# Altium schematic symbol library HW_ADHERENT_SYSCTRL_R1_L1.SchLib: 521 symbols (part 7 of 8)
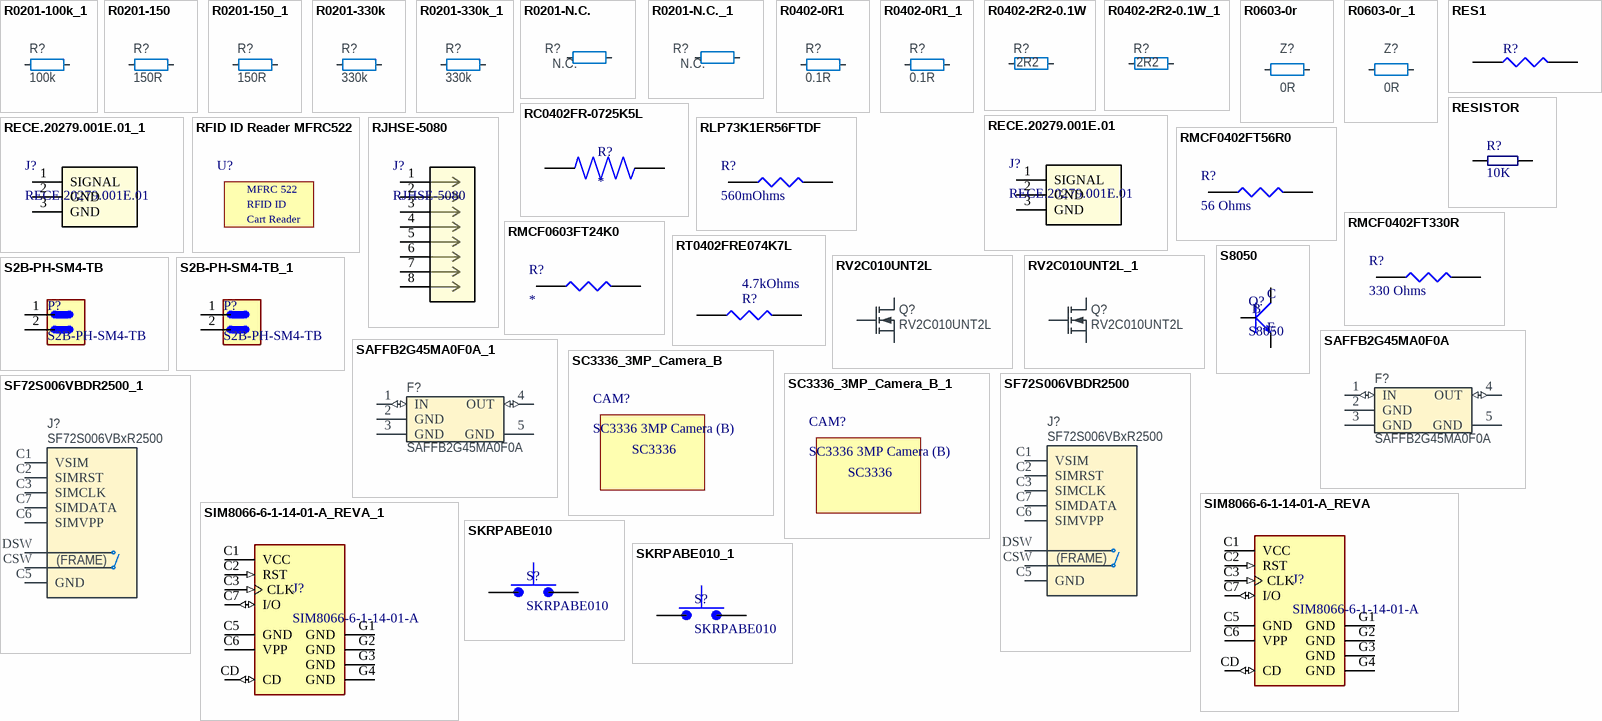
[diagram p21: symbols R0201-100k_1 to SKRPABE010_1]

## R0201-330k_1
designator R?, comment 330k
Resistor, ±1%, 0.05W; Part Number: R0201-330k; Manufacturer: N.A.; Part number IPS: 00000001424; Part number NEMS: 100100087; Component Status: Active; Pad Count: 2; Note: Chip Res 1%; PartId: 100100087; Component Class: Resistors; Author: rsk; Manufacturer Part Number: N.A.; ComponentLink1URL: N.A.; ComponentLink1Description: Datasheet; ComponentLink2URL: N.A.; ComponentLink2Description: Supplier link; HelpURL: N.A.; LatestRevisionDate: 2014-11-13; Published: 2014-11-13; Footprint Doc: 0201; Value: 330k; Supplier 1: N.A.; Supplier Part Number 1: N.A.; Supplier 2: N.A.; Supplier Part Number 2: N.A.; Artikkelnr Noca: N.A.; Part number Norautron: N.A.
footprint RESC0603X03L_C
pins: 1, 2

## R0201-N.C.
designator R?, comment N.C.
Not mounted; Part Number: R0201-N.C.; Manufacturer: N.A.; Part number NEMS: 100100107; Note: Chip Res; Assembly: Not mounted; Pad Count: 2; Component Status: Active; Manufacturer Part Number: N.A.; ComponentLink1URL: N.A.; ComponentLink1Description: Datasheet; ComponentLink2URL: N.A.; ComponentLink2Description: Supplier link; HelpURL: N.A.; Footprint Doc: 0201; LatestRevisionDate: 2014-11-13; Published: 2014-11-13; Value: N.C.; Supplier 1: N.A.; Supplier Part Number 1: N.A.; Supplier 2: N.A.; Supplier Part Number 2: N.A.; Artikkelnr Noca: N.A.; Part number IPS: N.A.; PartId: 100100107; Component Class: Resistors; Author: rsk; Part number Norautron: N.A.
footprint RESC0603X03L_C_NC
pins: 1, 2

## R0201-N.C._1
designator R?, comment N.C.
Not mounted; Part Number: R0201-N.C.; Manufacturer: N.A.; Part number NEMS: 100100107; Note: Chip Res; Assembly: Not mounted; Pad Count: 2; Component Status: Active; Manufacturer Part Number: N.A.; ComponentLink1URL: N.A.; ComponentLink1Description: Datasheet; ComponentLink2URL: N.A.; ComponentLink2Description: Supplier link; HelpURL: N.A.; Footprint Doc: 0201; LatestRevisionDate: 2014-11-13; Published: 2014-11-13; Value: N.C.; Supplier 1: N.A.; Supplier Part Number 1: N.A.; Supplier 2: N.A.; Supplier Part Number 2: N.A.; Artikkelnr Noca: N.A.; Part number IPS: N.A.; PartId: 100100107; Component Class: Resistors; Author: rsk; Part number Norautron: N.A.
footprint RESC0603X03L_C_NC
pins: 1, 2

## R0402-0R1
designator R?, comment 0.1R
Resistor, ±1%, 0.063W; Part Number: R0402-0R1; Manufacturer: N.A.; Part number IPS: 00000001795; Part number NEMS: 100100111; Note: Chip Res 1%; Pad Count: 2; Component Status: Active; Manufacturer Part Number: N.A.; ComponentLink1URL: N.A.; ComponentLink1Description: Datasheet; ComponentLink2URL: N.A.; ComponentLink2Description: Supplier link; HelpURL: N.A.; Footprint Doc: 0402; LatestRevisionDate: 2012-06-22; Published: 2012-06-22; Value: 0.1R; Supplier 1: Digi-Key; Supplier Part Number 1: 311-.10PDKR-ND; Supplier 2: N.A.; Supplier Part Number 2: N.A.; Artikkelnr Noca: N.A.; Author: rsk; Component Class: Resistors; PartId: 100100111; Part number Norautron: N.A.
footprint RESC1005X04L
pins: 1, 2

## R0402-0R1_1
designator R?, comment 0.1R
Resistor, ±1%, 0.063W; Part Number: R0402-0R1; Manufacturer: N.A.; Part number IPS: 00000001795; Part number NEMS: 100100111; Note: Chip Res 1%; Pad Count: 2; Component Status: Active; Manufacturer Part Number: N.A.; ComponentLink1URL: N.A.; ComponentLink1Description: Datasheet; ComponentLink2URL: N.A.; ComponentLink2Description: Supplier link; HelpURL: N.A.; Footprint Doc: 0402; LatestRevisionDate: 2012-06-22; Published: 2012-06-22; Value: 0.1R; Supplier 1: Digi-Key; Supplier Part Number 1: 311-.10PDKR-ND; Supplier 2: N.A.; Supplier Part Number 2: N.A.; Artikkelnr Noca: N.A.; Author: rsk; Component Class: Resistors; PartId: 100100111; Part number Norautron: N.A.
footprint RESC1005X04L
pins: 1, 2

## R0402-2R2-0.1W
designator R?, comment 2R2
Resistor, ±1%, 0.1W; Part Number: R0402-2R2-0.1W; Pad Count: 2; Artikkelnr Noca: N.A.; Note: 2R2 1% 0.1W; Component Status: Active; Footprint Doc: 0402; Value: 2R2; Component Class: Resistors; Author: getr; ComponentLink1Description: Datasheet; ComponentLink1URL: N.A.; ComponentLink2Description: Supplier link; ComponentLink2URL: N.A.; HelpURL: N.A.; LatestRevisionDate: 2025-04-04; Manufacturer: N.A.; Manufacturer Part Number: N.A.; Part number IPS: N.A.; Part number Norautron: N.A.; Published: 2025-04-04; Supplier 1: N.A.; Supplier 2: N.A.; Supplier Part Number 1: N.A.; Supplier Part Number 2: N.A.
footprint RESC1005X04L
pins: 1, 2

## R0402-2R2-0.1W_1
designator R?, comment 2R2
Resistor, ±1%, 0.1W; Part Number: R0402-2R2-0.1W; Pad Count: 2; Artikkelnr Noca: N.A.; Note: 2R2 1% 0.1W; Component Status: Active; Footprint Doc: 0402; Value: 2R2; Component Class: Resistors; Author: getr; ComponentLink1Description: Datasheet; ComponentLink1URL: N.A.; ComponentLink2Description: Supplier link; ComponentLink2URL: N.A.; HelpURL: N.A.; LatestRevisionDate: 2025-04-04; Manufacturer: N.A.; Manufacturer Part Number: N.A.; Part number IPS: N.A.; Part number Norautron: N.A.; Published: 2025-04-04; Supplier 1: N.A.; Supplier 2: N.A.; Supplier Part Number 1: N.A.; Supplier Part Number 2: N.A.
footprint RESC1005X04L
pins: 1, 2

## R0603-0r
designator Z?, comment 0R
Resistor, ±5%, 0.1W; Part Number: R0603-0R; Manufacturer: N.A.; Part number NEMS: 100100283; Pad Count: 2; Note: Chip Res 5%; Artikkelnr Noca: 27069000; Component Status: Active; PartId: 100100283; Component Class: Resistors; Author: rsk; Manufacturer Part Number: N.A.; ComponentLink1URL: N.A.; ComponentLink1Description: Datasheet; ComponentLink2URL: N.A.; ComponentLink2Description: Supplier link; HelpURL: N.A.; Footprint Doc: 0603; LatestRevisionDate: 2011-12-14; Published: 2009-05-08; Value: 0R; Supplier 1: N.A.; Supplier Part Number 1: N.A.; Supplier 2: N.A.; Supplier Part Number 2: N.A.; Part number IPS: N.A.; Part number Norautron: N.A.
footprint RESC1608X06L
footprint C1608X06L-C1005X04M (Chip Capacitor, 2-Leads, Body 1.6x0.8mm, IPC High Density)
pins: 1, 2

## R0603-0r_1
designator Z?, comment 0R
Resistor, ±5%, 0.1W; Part Number: R0603-0R; Manufacturer: N.A.; Part number NEMS: 100100283; Pad Count: 2; Note: Chip Res 5%; Artikkelnr Noca: 27069000; Component Status: Active; PartId: 100100283; Component Class: Resistors; Author: rsk; Manufacturer Part Number: N.A.; ComponentLink1URL: N.A.; ComponentLink1Description: Datasheet; ComponentLink2URL: N.A.; ComponentLink2Description: Supplier link; HelpURL: N.A.; Footprint Doc: 0603; LatestRevisionDate: 2011-12-14; Published: 2009-05-08; Value: 0R; Supplier 1: N.A.; Supplier Part Number 1: N.A.; Supplier 2: N.A.; Supplier Part Number 2: N.A.; Part number IPS: N.A.; Part number Norautron: N.A.
footprint RESC1608X06L
footprint C1608X06L-C1005X04M (Chip Capacitor, 2-Leads, Body 1.6x0.8mm, IPC High Density)
pins: 1, 2

## RC0402FR-0725K5L
designator R?
RES SMD 25.5K OHM 1% 1/16W 0402; MF: {'manufacturer': u'YAGEO'}; MP: RC0402FR-0725K5L; Package: None; Price: None; Value: *; Availability: Unavailable
footprint RESC1005X40N
pins: 1, 2

## RECE.20279.001E.01
designator J?
U.FL (UMCC), I-PEX MHFI Connector Receptacle, Male Pin 50 Ohms Surface Mount Solder; Manufacturer_Name: Taoglas Limited; Type: Coaxial Connectors(RF) Assemblies; Copyright: Copyright (C) 2025 Ultra Librarian. All rights reserved.; Manufacturer_Part_Number: RECE.20279.001E.01; RefDes: RefDes
footprint CON3_RECE.20279.001E.01_TAL
pins: 1 SIGNAL, 2 GND, 3 GND

## RECE.20279.001E.01_1
designator J?, comment RECE.20279.001E.01
U.FL (UMCC), I-PEX MHFI Connector Receptacle, Male Pin 50 Ohms Surface Mount Solder; Manufacturer_Name: Taoglas Limited; Type: Coaxial Connectors(RF) Assemblies; Copyright: Copyright (C) 2025 Ultra Librarian. All rights reserved.; Manufacturer_Part_Number: RECE.20279.001E.01; RefDes: RefDes
footprint CON3_RECE.20279.001E.01_TAL
pins: 1 SIGNAL, 2 GND, 3 GND

## RES1
designator R?
footprint 0603 (SMD CAPACITOR)
footprint 0805
footprint 1206 (SMD, 2-Leads, Body 1.6x0.8mm)
pins: 1, 2

## RESISTOR
designator R?, comment 10K
RESISTOR; VALUE: 10K; CATEGORY: *; LUNA-STOCK-CODE: *; MPN: *
footprint R0402 (SMD RESISTOR)
footprint R0201 (SMD RESISTOR)
footprint R0603 (SMD RESISTOR)
footprint R0805 (SMD RESISTOR)
footprint R1206 (SMD RESISTOR)
footprint R1210 (SMD RESISTOR)
footprint R2512 (SMD RESISTOR)
footprint RESISTOR 3W (AXİAL RESISTOR)
footprint RESISTOR 3W_R01 (AXIAL RESISTOR)
footprint RESISTOR 3W_R02 (AXIAL RESISTOR)
footprint R-ULW3 (AXIAL RESISTOR)
pins: 1, 2

## RFID ID Reader MFRC522
designator U?  (value not drawn)
MFRC-522 RC522 RFID RF IC kart okuyucu Sensör Modülü Lehim 8 P Soket
footprint RFID-MFRC522
text: MFRC 522; RFID ID; Cart Reader

## RJHSE-5080
designator J?
Description; Manufacturer_Name: Amphenol ICC; Copyright: Copyright (C) 2026 Ultra Librarian. All rights reserved.; Manufacturer_Part_Number: RJHSE-5080; RefDes: RefDes; Type: Type
footprint AMPHENOL_RJHSE-5080
pins: 1, 2, 3, 4, 5, 6, 7, 8

## RLP73K1ER56FTDF
designator R?, comment 560mOhms
560 mOhms ±1% 0.125W, 1/8W Chip Resistor 0402 (1005 Metric) Current Sense Thick Film; Manufacturer: TE Connectivity Passive Product; Supplier: Digi; A109550DKR-ND
footprint RES_0402
pins: 1, 2

## RMCF0402FT56R0
designator R?, comment 56 Ohms
56 Ohms ±1% 0.063W, 1/16W Chip Resistor 0402 (1005 Metric) Automotive AEC-Q200 Thick Film; Manİfacturer: Stackpole Electronics Inc; Supplier: Digi; RMCF0402FT56R0DKR-ND
footprint RES_0402
pins: 1, 2

## RMCF0402FT330R
designator R?, comment 330 Ohms
330 Ohms ±1% 0.063W, 1/16W Chip Resistor 0402 (1005 Metric) Automotive AEC-Q200 Thick Film; Manifacturer: Stackpole Electronics Inc; Supplier: Digi; RMCF0402FT330RDKR-ND
footprint RES_0402
pins: 1, 2

## RMCF0603FT24K0
designator R?
24 kOhms ±1% 0.1W, 1/10W Chip Resistor 0603 (1608 Metric) Automotive AEC-Q200 Thick Film; Manufacturer: Stackpole Electronics Inc; Supplier: Digi; RMCF0603FT24K0DKR-ND
footprint 0603 (SMD CAPACITOR)
pins: 1, 2

## RT0402FRE074K7L
designator R?, comment 4.7kOhms
RES SMD 4.7K OHM 1% 1/16W 0402; Manufacturer: Yageo Group; Manufacturer Part Number: RT0402FRE074K7L; Max Power Dissipation: 63mW; Power Rating: 62.5mW; Temperature Coefficient: 50ppm/°C; Voltage Rating: 50V; Case Code (Imperial): 0402; Case/Package: 0402; Category: Chip SMD Resistors; China RoHS: Non-Compliant; Composition: Thin Film; Contact Plating: Lead, Tin; Country of Origin: Mainland China; Export Control Classification Number (ECCN) Code: EAR99; Features: Moisture Resistant; Harmonized Tariff Schedule (HTS) Code: 8533.21.00.30; Height: 300µm; Introduction Date: 2008-06-09; Lead Free: Lead Free; Length: 1mm; Lifecycle Status: Production; Max Operating Temperature: 155°C; Min Operating Temperature: -55°C; Mounting Technology: Surface Mount; Number of Terminals: 2; Number of Terminations: 2; Radiation Hardening: No; REACH SVHC: Yes; RoHS: Compliant; Schedule B: 8533210045, 8533210045|8533210045, 8533210045|8533210045|8533210045, 8533210045|8533210045|8533210045|8533210045; Termination: SMD/SMT; Tolerance: 1%; Voltage Rating (DC): 50V; Width: 500µm; Working Voltage: 50V; Value: 4.7kOhms
footprint RES_0402
pins: 1, 2

## RV2C010UNT2L
designator Q?
N-Channel MOSFET, 20V, 1A, 470mOhm, 400mW; Manufacturer: Rohm Semiconductor; Part number IPS: 00000009976; Part number Norautron: 26320026; Part number NEMS: 101300132; Note: N.A.; Artikkelnr Noca: 35010020; Pad Count: 3; Component Status: Active; Part Number: RV2C010UNT2L; Manufacturer Part Number: RV2C010UNT2L; ComponentLink1URL: N.A.; ComponentLink1Description: Datasheet; ComponentLink2URL: N.A.; ComponentLink2Description: Supplier link; HelpURL: http://rohmfs.rohm.com/en/products/databook/datasheet/discrete/transistor/mosfet/rv2c010unt2l-e.pdf; Footprint Doc: DFN-3; LatestRevisionDate: 2016-08-09; Published: 2016-08-09; Value: RV2C010UNT2L; Supplier 1: Digi-Key; Supplier Part Number 1: RV2C010UNT2LCT-ND; Supplier 2: Mouser; Supplier Part Number 2: 755-RV2C010UNT2L; PartId: 101300132; Component Class: Semiconductors; Author: rsk
footprint DFN65P100X40-3L
pins: 1 G, 2 S, 3 D

## RV2C010UNT2L_1
designator Q?, comment RV2C010UNT2L
N-Channel MOSFET, 20V, 1A, 470mOhm, 400mW; Manufacturer: Rohm Semiconductor; Part number IPS: 00000009976; Part number Norautron: 26320026; Part number NEMS: 101300132; Note: N.A.; Artikkelnr Noca: 35010020; Pad Count: 3; Component Status: Active; Part Number: RV2C010UNT2L; Manufacturer Part Number: RV2C010UNT2L; ComponentLink1URL: N.A.; ComponentLink1Description: Datasheet; ComponentLink2URL: N.A.; ComponentLink2Description: Supplier link; HelpURL: http://rohmfs.rohm.com/en/products/databook/datasheet/discrete/transistor/mosfet/rv2c010unt2l-e.pdf; Footprint Doc: DFN-3; LatestRevisionDate: 2016-08-09; Published: 2016-08-09; Value: RV2C010UNT2L; Supplier 1: Digi-Key; Supplier Part Number 1: RV2C010UNT2LCT-ND; Supplier 2: Mouser; Supplier Part Number 2: 755-RV2C010UNT2L; PartId: 101300132; Component Class: Semiconductors; Author: rsk
footprint DFN65P100X40-3L
pins: 1 G, 2 S, 3 D

## S2B-PH-SM4-TB
designator P?
Connector Header Surface Mount, Right Angle 2 position 0.079 (2.00mm); MF: JST Sales; SnapEDA_Link: https://www.snapeda.com/parts/S2B-PH-SM4-TB/JST/view-part/?ref=snap; Package: None; Value: *; MP: S2B-PH-SM4-TB; Check_prices: https://www.snapeda.com/parts/S2B-PH-SM4-TB/JST/view-part/?ref=eda
footprint JST_S2B-PH-SM4-TB
pins: 1, 2

## S2B-PH-SM4-TB_1
designator P?, comment S2B-PH-SM4-TB
Connector Header Surface Mount, Right Angle 2 position 0.079 (2.00mm); MF: JST Sales; SnapEDA_Link: https://www.snapeda.com/parts/S2B-PH-SM4-TB/JST/view-part/?ref=snap; Package: None; Value: *; MP: S2B-PH-SM4-TB; Check_prices: https://www.snapeda.com/parts/S2B-PH-SM4-TB/JST/view-part/?ref=eda
footprint JST_S2B-PH-SM4-TB
pins: 1, 2

## S8050
designator Q?
Bipolar (BJT) Transistor NPN 25 V 500 mA 150MHz 300 mW Surface Mount SOT-23; MF: UMW; Purchase-URL: https://pricing.snapeda.com/search/part/S8050/?ref=eda; Check_prices: https://www.snapeda.com/parts/S8050/Umwelt+Sensor+Teknik/view-part/?ref=eda; SnapEDA_Link: https://www.snapeda.com/parts/S8050/Umwelt+Sensor+Teknik/view-part/?ref=snap; Price: None; Availability: In Stock; Package: None; MP: S8050; Value: *
footprint SOT-23
pins: 1 B, 2 E, 3 C

## SAFFB2G45MA0F0A
designator F?
2.4 GHz BPF; Manufacturer: Murata; Part number IPS: 00000001784, 80000001660; Part number NEMS: 100800023; Artikkelnr Noca: N.A.; Pad Count: 5; Component Status: Active; Part Number: SAFFB2G45MA0F0A; Manufacturer Part Number: SAFFB2G45MA0F0A; ComponentLink1URL: N.A.; ComponentLink1Description: Datasheet; ComponentLink2URL: N.A.; ComponentLink2Description: Supplier link; HelpURL: N.A.; Footprint Doc: 1109; LatestRevisionDate: 2018-05-15; Published: 2018-05-15; Value: SAFFB2G45MA0F0A; Supplier 1: N.A.; Supplier Part Number 1: N.A.; Supplier 2: N.A.; Supplier Part Number 2: N.A.; Author: rsk; Component Class: Filters; Note: N.A.; PartId: 100800023; Part number Norautron: N.A.
footprint SAFFB2G45MA0F0A
pins: 1 IN (io), 2 GND (power), 3 GND (power), 4 OUT (io), 5 GND (power)

## SAFFB2G45MA0F0A_1
designator F?, comment SAFFB2G45MA0F0A
2.4 GHz BPF; Manufacturer: Murata; Part number IPS: 00000001784, 80000001660; Part number NEMS: 100800023; Artikkelnr Noca: N.A.; Pad Count: 5; Component Status: Active; Part Number: SAFFB2G45MA0F0A; Manufacturer Part Number: SAFFB2G45MA0F0A; ComponentLink1URL: N.A.; ComponentLink1Description: Datasheet; ComponentLink2URL: N.A.; ComponentLink2Description: Supplier link; HelpURL: N.A.; Footprint Doc: 1109; LatestRevisionDate: 2018-05-15; Published: 2018-05-15; Value: SAFFB2G45MA0F0A; Supplier 1: N.A.; Supplier Part Number 1: N.A.; Supplier 2: N.A.; Supplier Part Number 2: N.A.; Author: rsk; Component Class: Filters; Note: N.A.; PartId: 100800023; Part number Norautron: N.A.
footprint SAFFB2G45MA0F0A
pins: 1 IN (io), 2 GND (power), 3 GND (power), 4 OUT (io), 5 GND (power)

## SC3336_3MP_Camera_B
designator CAM?, comment SC3336 3MP Camera (B)
https://www.luckfox.com/EN-SC3336-3MP-Camera-B?search=SC3336&description=true; ComponentLink1Description: New link; ComponentLink1URL: *
footprint SC3336
text: SC3336

## SC3336_3MP_Camera_B_1
designator CAM?, comment SC3336 3MP Camera (B)
https://www.luckfox.com/EN-SC3336-3MP-Camera-B?search=SC3336&description=true; ComponentLink1Description: New link; ComponentLink1URL: *
footprint SC3336
text: SC3336

## SF72S006VBDR2500
designator J?, comment SF72S006VBxR2500
n 8 (6 + 2) Position Card Connector NANO SIM Surface Mount, Right Angle Gold; Part Number: SF72S006VBDR2500; Manufacturer: JAE Electronics; Part number NEMS: 100500780; Value: SF72S006VBDR2500; Note: N.A.; Pad Count: 8; Component Status: Active; Manufacturer Part Number: SF72S006VBDR2500; Footprint Doc: SF72S006VBDR2500; LatestRevisionDate: 2023-01-12; Published: 2023-01-12; Artikkelnr Noca: N.A.; Part number IPS: N.A.; ComponentLink1URL: https://www.jae.com/direct/topics/topics_file_download/topics_id=68892&ext_no=04&_lang=en; ComponentLink1Description: Datasheet; ComponentLink2URL: https://www.digikey.com/en/products/detail/jae-electronics/SF72S006VBDR2500/6834083; ComponentLink2Description: Supplier link; HelpURL: N.A.; Supplier 1: Digi-Key; Supplier Part Number 1: 670-2967-1-ND; Supplier 2: N.A.; Supplier Part Number 2: N.A.; Author: rubr; Component Class: Connectors; PartId: 100500780; Part number Norautron: N.A.; System: Connector
footprint SF72S006VBxR2500
pins: 0 GND hidden to GND, C1 VSIM, C2 SIMRST, C3 SIMCLK, C5 GND, C6 SIMVPP, C7 SIMDATA, CSW, DSW
text: (FRAME)

## SF72S006VBDR2500_1
designator J?, comment SF72S006VBxR2500
n 8 (6 + 2) Position Card Connector NANO SIM Surface Mount, Right Angle Gold; Part Number: SF72S006VBDR2500; Manufacturer: JAE Electronics; Part number NEMS: 100500780; Value: SF72S006VBDR2500; Note: N.A.; Pad Count: 8; Component Status: Active; Manufacturer Part Number: SF72S006VBDR2500; Footprint Doc: SF72S006VBDR2500; LatestRevisionDate: 2023-01-12; Published: 2023-01-12; Artikkelnr Noca: N.A.; Part number IPS: N.A.; ComponentLink1URL: https://www.jae.com/direct/topics/topics_file_download/topics_id=68892&ext_no=04&_lang=en; ComponentLink1Description: Datasheet; ComponentLink2URL: https://www.digikey.com/en/products/detail/jae-electronics/SF72S006VBDR2500/6834083; ComponentLink2Description: Supplier link; HelpURL: N.A.; Supplier 1: Digi-Key; Supplier Part Number 1: 670-2967-1-ND; Supplier 2: N.A.; Supplier Part Number 2: N.A.; Author: rubr; Component Class: Connectors; PartId: 100500780; Part number Norautron: N.A.; System: Connector
footprint SF72S006VBxR2500
pins: 0 GND hidden to GND, C1 VSIM, C2 SIMRST, C3 SIMCLK, C5 GND, C6 SIMVPP, C7 SIMDATA, CSW, DSW
text: (FRAME)

## SIM8066-6-1-14-01-A_REVA
designator J?, comment SIM8066-6-1-14-01-A
Nano SIM Card ConnectorPush-Push Type, SMT, 6Pin, 1.44mm Profile; MP: SIM8066-6-1-14-01-A_REVA; Package: None; Price: None; Value: *; Availability: Unavailable; Manufacturer Part Number: SIM8066-6-1-14-01-A
footprint GCT_SIM8066-6-1-14-01-A_REVA
pins: C1 VCC (power), C2 RST (in), C3 CLK (in), C5 GND (power), C6 VPP (power), C7 I/O (io), CD (io), G1 GND (power), G2 GND (power), G3 GND (power), G4 GND (power)

## SIM8066-6-1-14-01-A_REVA_1
designator J?, comment SIM8066-6-1-14-01-A
Nano SIM Card ConnectorPush-Push Type, SMT, 6Pin, 1.44mm Profile; MP: SIM8066-6-1-14-01-A_REVA; Package: None; Price: None; Value: *; Availability: Unavailable; Manufacturer Part Number: SIM8066-6-1-14-01-A
footprint GCT_SIM8066-6-1-14-01-A_REVA
pins: C1 VCC (power), C2 RST (in), C3 CLK (in), C5 GND (power), C6 VPP (power), C7 I/O (io), CD (io), G1 GND (power), G2 GND (power), G3 GND (power), G4 GND (power)

## SKRPABE010
designator S?
Switch Tactile N.O. SPST Button J-Bend 0.05A 16VDC 1.57N SMD Automotive T/R; MF: ALPS; SnapEDA_Link: https://www.snapeda.com/parts/SKRPABE010/ALPS/view-part/?ref=snap; Package: None; Value: *; MP: SKRPABE010; Check_prices: https://www.snapeda.com/parts/SKRPABE010/ALPS/view-part/?ref=eda
footprint SW_SKRPABE010
pins: 1, 2 1, 3 2, 4 2

## SKRPABE010_1
designator S?, comment SKRPABE010
Switch Tactile N.O. SPST Button J-Bend 0.05A 16VDC 1.57N SMD Automotive T/R; MF: ALPS; SnapEDA_Link: https://www.snapeda.com/parts/SKRPABE010/ALPS/view-part/?ref=snap; Package: None; Value: *; MP: SKRPABE010; Check_prices: https://www.snapeda.com/parts/SKRPABE010/ALPS/view-part/?ref=eda
footprint SW_SKRPABE010
pins: 1, 2 1, 3 2, 4 2

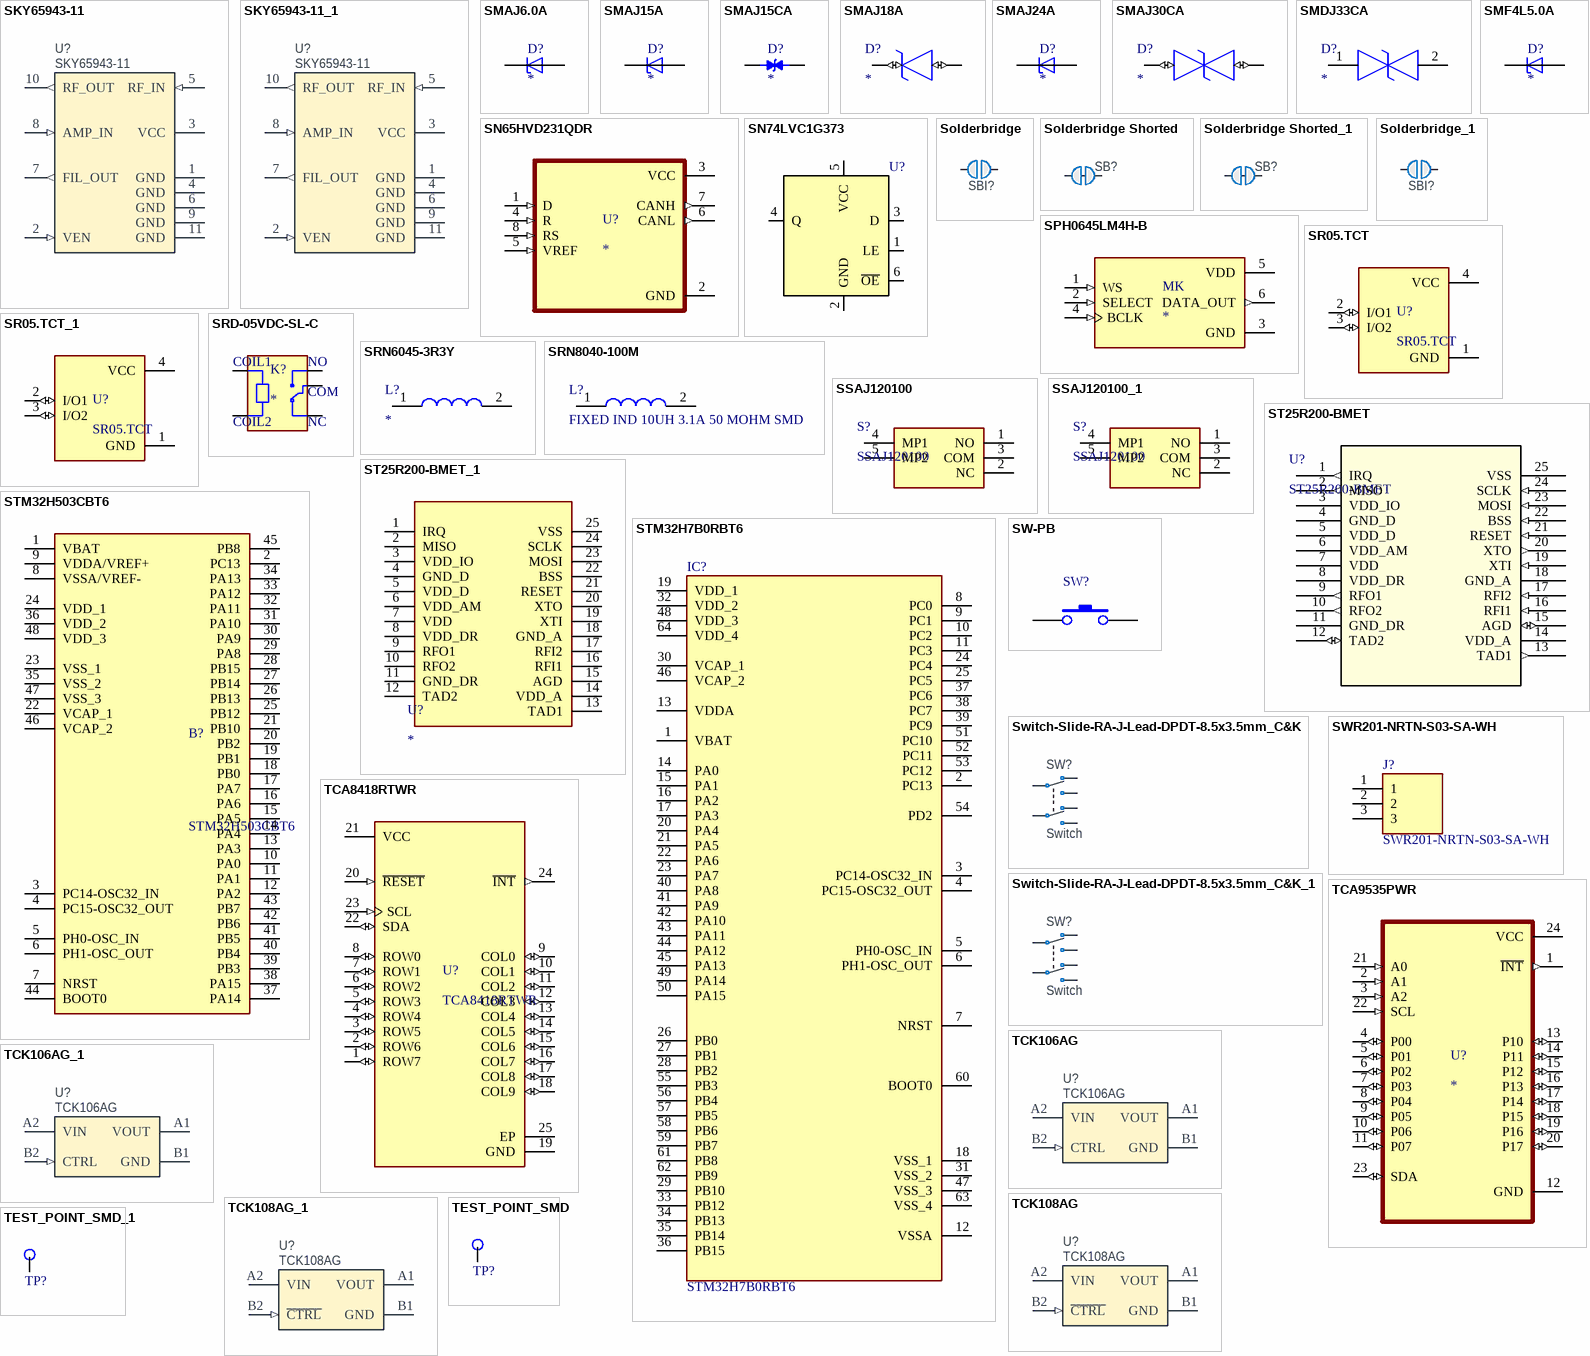
[diagram p13: symbols SKY65943-11 to TEST_POINT_SMD_1]

## SKY65943-11
designator U?
GNSS Low-Noise Amplifier Front-End Module with Integrated Pre-Filter and Post-Filter; Manufacturer: Skyworks; Part number IPS: 00000002997; Part number NEMS: 101900584; Note: N.A.; Pad Count: 10; Component Status: Active; Part Number: SKY65943-11; Manufacturer Part Number: SKY65943-11; Footprint Doc: MCM-10; Value: SKY65943-11; ComponentLink1URL: http://www.skyworksinc.com/uploads/documents/SKY65943_11_204404F.pdf; ComponentLink1Description: Datasheet; ComponentLink2URL: https://www.digikey.com/product-detail/en/skyworks-solutions-inc/SKY65943-11/863-2032-1-ND; ComponentLink2Description: Supplier link; HelpURL: http://www.skyworksinc.com/Product/3579/SKY65943-11; LatestRevisionDate: 2019-04-16; Published: 2019-04-16; Supplier 1: Digi-Key; Supplier Part Number 1: 863-2032-1-ND; Supplier 2: Mouser; Supplier Part Number 2: 873-SKY65943-11; Artikkelnr Noca: N.A.; PartId: 101900584; Component Class: Misc_ICs; Author: rsk; Part number Norautron: N.A.
footprint SKY65943-11
pins: 1 GND (power), 2 VEN (in), 3 VCC (power), 4 GND (power), 5 RF_IN (in), 6 GND (power), 7 FIL_OUT (out), 8 AMP_IN (in), 9 GND (power), 10 RF_OUT (out), 11 GND (power)

## SKY65943-11_1
designator U?, comment SKY65943-11
GNSS Low-Noise Amplifier Front-End Module with Integrated Pre-Filter and Post-Filter; Manufacturer: Skyworks; Part number IPS: 00000002997; Part number NEMS: 101900584; Note: N.A.; Pad Count: 10; Component Status: Active; Part Number: SKY65943-11; Manufacturer Part Number: SKY65943-11; Footprint Doc: MCM-10; Value: SKY65943-11; ComponentLink1URL: http://www.skyworksinc.com/uploads/documents/SKY65943_11_204404F.pdf; ComponentLink1Description: Datasheet; ComponentLink2URL: https://www.digikey.com/product-detail/en/skyworks-solutions-inc/SKY65943-11/863-2032-1-ND; ComponentLink2Description: Supplier link; HelpURL: http://www.skyworksinc.com/Product/3579/SKY65943-11; LatestRevisionDate: 2019-04-16; Published: 2019-04-16; Supplier 1: Digi-Key; Supplier Part Number 1: 863-2032-1-ND; Supplier 2: Mouser; Supplier Part Number 2: 873-SKY65943-11; Artikkelnr Noca: N.A.; PartId: 101900584; Component Class: Misc_ICs; Author: rsk; Part number Norautron: N.A.
footprint SKY65943-11
pins: 1 GND (power), 2 VEN (in), 3 VCC (power), 4 GND (power), 5 RF_IN (in), 6 GND (power), 7 FIL_OUT (out), 8 AMP_IN (in), 9 GND (power), 10 RF_OUT (out), 11 GND (power)

## SMAJ6.0A
designator D?
400W, 7V, 5%, Unidirectional, TVS; MF: Taiwan Semiconductor; MP: SMAJ6.0A; SnapEDA_Link: https://www.snapeda.com/parts/SMAJ6.0A/taiwan/view-part/?ref=snap; Package: SMA-2 Taiwan Semiconductor; Value: *; Check_prices: https://www.snapeda.com/parts/SMAJ6.0A/taiwan/view-part/?ref=eda
footprint DIOM4325X250N
pins: A, C

## SMAJ15A
designator D?
400W, 17.6V, 5%, Unidirectional, TVS; MF: Taiwan Semiconductor; MP: SMAJ15A; SnapEDA_Link: https://www.snapeda.com/parts/SMAJ15A/taiwan/view-part/?ref=snap; Package: SMA-2 Taiwan Semiconductor; Value: *; Check_prices: https://www.snapeda.com/parts/SMAJ15A/taiwan/view-part/?ref=eda
footprint DIOM4325X250N
pins: A, C

## SMAJ15CA
designator D?
A 15V, 400W, bi-directional, SMA packaged TVS Diode | Bourns SMAJ15CA; SnapEDA_Link: https://www.snapeda.com/parts/SMAJ15CA/Bourns/view-part/?ref=snap; Package: DO-214 Bourns; Value: *; MF: Bourns; MP: SMAJ15CA; Check_prices: https://www.snapeda.com/parts/SMAJ15CA/Bourns/view-part/?ref=eda
footprint DIOM4325X250N
pins: 1, 2

## SMAJ18A
designator D?
39.3V Clamp 59A (8/20Âµs) Ipp Tvs Diode Surface Mount DO-214AC (SMA); MF: STMicroelectronics; MP: SMAJ18A-TR; SnapEDA_Link: https://www.snapeda.com/parts/SMAJ18A-TR/STMicroelectronics/view-part/?ref=snap; Package: DO-214 STMicroelectronics; Value: *; Check_prices: https://www.snapeda.com/parts/SMAJ18A-TR/STMicroelectronics/view-part/?ref=eda
footprint DIOM5226X262N
pins: 1 K (io), 2 A (io)

## SMAJ24A
designator D?
Diode TVS Uni-Dir 24V 400W DO214AC | Littelfuse SMAJ24A; SnapEDA_Link: https://www.snapeda.com/parts/SMAJ24A/Littelfuse/view-part/?ref=snap; Package: DO-214 Littelfuse; Value: *; MF: Littelfuse; MP: SMAJ24A; Check_prices: https://www.snapeda.com/parts/SMAJ24A/Littelfuse/view-part/?ref=eda
footprint DIOM4325X250N
pins: A, C

## SMAJ30CA
designator D?
Diode TVS Bi-Dir 30V 400W DO214AC | Littelfuse SMAJ30CA; SnapEDA_Link: https://www.snapeda.com/parts/SMAJ30CA/Littelfuse/view-part/?ref=snap; Package: DO-214 Bourns; Value: *; MF: Littelfuse; MP: SMAJ30CA; Check_prices: https://www.snapeda.com/parts/SMAJ30CA/Littelfuse/view-part/?ref=eda
footprint DIONM5026X229N
pins: 1 (io), 2 (io)

## SMDJ33CA
designator D?
53.3V Clamp 56.3A Ipp Tvs Diode Surface Mount DO-214AB (SMCJ); Manufacturer: Littelfuse Inc.; Supplier: Digi; SMDJ33CADKR-ND
footprint DIONM7959X262N
pins: 1, 2

## SMF4L5.0A
designator D?
400W, 5V - 75V Surface Mount Transient Voltage Suppressor; MF: Taiwan Semiconductor; MP: SMF4L5.0A; SnapEDA_Link: https://www.snapeda.com/parts/SMF4L5.0A/taiwan/view-part/?ref=snap; Package: SOD-123W-2 Taiwan Semiconductor; Value: *; Check_prices: https://www.snapeda.com/parts/SMF4L5.0A/taiwan/view-part/?ref=eda
footprint TVS_SMF4L5.0A
pins: A, C

## SN65HVD231QDR
designator U?
3.3-V CAN Transceiver with Sleep Mode; MF: Texas Instruments; MP: SN65HVD231QDR; SnapEDA_Link: https://www.snapeda.com/parts/SN65HVD231QDR/Texas+Instruments/view-part/?ref=snap; Package: SOIC-8 Texas Instruments; Value: *; Check_prices: https://www.snapeda.com/parts/SN65HVD231QDR/Texas+Instruments/view-part/?ref=eda
footprint SOIC127P599X175-8N
pins: 1 D (in), 2 GND (power), 3 VCC (power), 4 R (in), 5 VREF (in), 6 CANL (out), 7 CANH (out), 8 RS (in)

## SN74LVC1G373
designator U?
footprint SOT-363
pins: 1 LE, 2 GND, 3 D, 4 Q, 5 VCC, 6 ~{OE}

## Solderbridge
designator SBI?  (value not drawn)  (no BOM)
Manufacturer: N.A.; Part number NEMS: 100500458; Pad Count: 2; Component Status: Active; System: Connector; Part Number: Solderbridge; PartId: 100500458; Component Class: Connectors; Author: rsk; Manufacturer Part Number: N.A.; ComponentLink1URL: N.A.; ComponentLink1Description: Datasheet; ComponentLink2URL: N.A.; ComponentLink2Description: Supplier link; HelpURL: N.A.; Footprint Doc: Solderbridge; LatestRevisionDate: 2009-12-14; Published: 2009-12-14; Value: Solderbridge; Note: N.A.; Supplier 1: N.A.; Supplier Part Number 1: N.A.; Supplier 2: N.A.; Supplier Part Number 2: N.A.; Artikkelnr Noca: N.A.; Part number IPS: N.A.; Part number Norautron: N.A.
footprint Solderbridge
pins: 1 0, 2 1

## Solderbridge Shorted
designator SB?, comment Solderbridge  (value not drawn)  (net tie, no BOM)
Shorted Solderbridge; Part Number: Solderbridge Shorted; Manufacturer: N.A.; Part number NEMS: 100500459; Component Status: Active; Pad Count: 2; System: Connector; PartId: 100500459; Component Class: Connectors; Author: rsk; Manufacturer Part Number: N.A.; ComponentLink1URL: N.A.; ComponentLink1Description: Datasheet; ComponentLink2URL: N.A.; ComponentLink2Description: Supplier link; HelpURL: N.A.; LatestRevisionDate: 2012-08-07; Published: 2012-08-07; Footprint Doc: Solderbridge_Shorted; Value: Solderbridge; Note: N.A.; Supplier 1: N.A.; Supplier Part Number 1: N.A.; Supplier 2: N.A.; Supplier Part Number 2: N.A.; Artikkelnr Noca: N.A.; Part number IPS: N.A.; Part number Norautron: N.A.
footprint Solderbridge_Shorted
pins: 1 0, 2 1

## Solderbridge Shorted_1
designator SB?, comment Solderbridge  (value not drawn)  (net tie, no BOM)
Shorted Solderbridge; Part Number: Solderbridge Shorted; Manufacturer: N.A.; Part number NEMS: 100500459; Component Status: Active; Pad Count: 2; System: Connector; PartId: 100500459; Component Class: Connectors; Author: rsk; Manufacturer Part Number: N.A.; ComponentLink1URL: N.A.; ComponentLink1Description: Datasheet; ComponentLink2URL: N.A.; ComponentLink2Description: Supplier link; HelpURL: N.A.; LatestRevisionDate: 2012-08-07; Published: 2012-08-07; Footprint Doc: Solderbridge_Shorted; Value: Solderbridge; Note: N.A.; Supplier 1: N.A.; Supplier Part Number 1: N.A.; Supplier 2: N.A.; Supplier Part Number 2: N.A.; Artikkelnr Noca: N.A.; Part number IPS: N.A.; Part number Norautron: N.A.
footprint Solderbridge_Shorted
pins: 1 0, 2 1

## Solderbridge_1
designator SBI?, comment Solderbridge  (value not drawn)  (no BOM)
Manufacturer: N.A.; Part number NEMS: 100500458; Pad Count: 2; Component Status: Active; System: Connector; Part Number: Solderbridge; PartId: 100500458; Component Class: Connectors; Author: rsk; Manufacturer Part Number: N.A.; ComponentLink1URL: N.A.; ComponentLink1Description: Datasheet; ComponentLink2URL: N.A.; ComponentLink2Description: Supplier link; HelpURL: N.A.; Footprint Doc: Solderbridge; LatestRevisionDate: 2009-12-14; Published: 2009-12-14; Value: Solderbridge; Note: N.A.; Supplier 1: N.A.; Supplier Part Number 1: N.A.; Supplier 2: N.A.; Supplier Part Number 2: N.A.; Artikkelnr Noca: N.A.; Part number IPS: N.A.; Part number Norautron: N.A.
footprint Solderbridge
pins: 1 0, 2 1

## SPH0645LM4H-B
designator MK
20 Hz ~ 10 kHz digitale IÂ²S-Mikrofon-MEMS _Silizium_ 1,62 V ~ 3,6 V omnidirektionale _-26 dB Â± 3 dB bei 94 dB SPL_ LÃ¶tpads; MP: SPH0645LM4H-B; MF: Knowles; Package: SIP-7 Bourns; Digi-Key_Purchase_URL: https://www.digikey.ch/product-detail/en/knowles/SPH0645LM4H-B/423-1405-1-ND/5332432?utm_source=snapeda&utm_medium=aggregator&utm_campaign=symbol; Digi-Key_Part_Number: 423-1405-1-ND; SnapEDA_Link: https://www.snapeda.com/parts/SPH0645LM4H-B/Knowles/view-part/229820/?ref=snap; Value: *
footprint MIC_SPH0645LM4H-B
pins: 1 WS (in), 2 SELECT (in), 3 GND (power), 4 BCLK (in), 5 VDD (power), 6 DATA_OUT (out)

## SR05.TCT
designator U?
20V Clamp 25A (8/20µs) Ipp Tvs Diode Surface Mount SOT-143-4; MF: Semtech Corporation; SnapEDA_Link: https://www.snapeda.com/parts/SR05.TCT/Semtech+Corporation/view-part/?ref=snap; Package: SOT-143 Semtech; Value: *; MP: SR05.TCT; Check_prices: https://www.snapeda.com/parts/SR05.TCT/Semtech+Corporation/view-part/?ref=eda
footprint SOT192P237X122-4N
pins: 1 GND (power), 2 I/O1 (io), 3 I/O2 (io), 4 VCC (power)

## SR05.TCT_1
designator U?, comment SR05.TCT
20V Clamp 25A (8/20µs) Ipp Tvs Diode Surface Mount SOT-143-4; MF: Semtech Corporation; SnapEDA_Link: https://www.snapeda.com/parts/SR05.TCT/Semtech+Corporation/view-part/?ref=snap; Package: SOT-143 Semtech; Value: *; MP: SR05.TCT; Check_prices: https://www.snapeda.com/parts/SR05.TCT/Semtech+Corporation/view-part/?ref=eda
footprint SOT192P237X122-4N
pins: 1 GND (power), 2 I/O1 (io), 3 I/O2 (io), 4 VCC (power)

## SRD-05VDC-SL-C
designator K?
5V Trigger Relay Module For Arduino And Raspberry Pi 5V Trigger Relay Module For Arduino And Raspberry Pi; MF: Songle Relay; MP: SRD-05VDC-SL-C; Check_prices: https://www.snapeda.com/parts/SRD-05VDC-SL-C/Songle+Relay/view-part/?ref=eda; Value: *; Availability: Not in stock; Price: None; Package: NON STANDARD-5 Songle Relay; SnapEDA_Link: https://www.snapeda.com/parts/SRD-05VDC-SL-C/Songle+Relay/view-part/?ref=snap
footprint RELAY_SRD-05VDC-SL-C
pins: A1, A2, COM, NC, NO
text: COIL1; COIL2

## SRN6045-3R3Y
designator L?
Inductor; Manufacturer_Name: Bourns; Manufacturer_Part_Number: SRN6045-3R3Y; Datasheet Link: http://www.bourns.com/data/global/pdfs/SRN6045.PDF; Height: 4.5mm; Mouser Part Number: 652-SRN6045-3R3Y; Mouser Price/Stock: https://www.mouser.co.uk/ProductDetail/Bourns/SRN6045-3R3Y?qs=opBjA1TV902zAu8ZJKzTSQ%3D%3D; Arrow Part Number: SRN6045-3R3Y; Arrow Price/Stock: https://www.arrow.com/en/products/srn6045-3r3y/bourns?region=nac
footprint INDM6060X450N
pins: 1, 2

## SRN8040-100M
designator L?, comment FIXED IND 10UH 3.1A 50 MOHM SMD
Manufacturer_Name: Bourns; Manufacturer_Part_Number: SRN8040-100M; Datasheet Link: https://componentsearchengine.com/Datasheets/1/SRN8040-100M.pdf; Height: 4mm; Mouser Part Number: 652-SRN8040-100M; Mouser Price/Stock: https://www.mouser.co.uk/ProductDetail/Bourns/SRN8040-100M?qs=opBjA1TV901MvrktVUEKyA%3D%3D; Arrow Part Number: SRN8040-100M; Arrow Price/Stock: https://www.arrow.com/en/products/srn8040-100m/bourns?region=nac
footprint SRN8040100M
pins: 1, 2

## SSAJ120100
designator S?
Slide Switch SPDT Surface Mount, Right Angle; Manufacturer_Name: ALPS Electric; Datasheet Link: https://tech.alpsalpine.com/e/products/detail/SSAJ120100/#ancFig2; Height: 0.9mm; Manufacturer_Part_Number: SSAJ120100; Mouser Part Number: 688-SSAJ120100; Mouser Price/Stock: https://www.mouser.co.uk/ProductDetail/Alps-Alpine/SSAJ120100?qs=35GPJvxY%252Bl5mRNwFoBrl2g%3D%3D
footprint SSAJ120100
pins: 1 NO, 2 NC, 3 COM, 4 MP1, 5 MP2

## SSAJ120100_1
designator S?, comment SSAJ120100
Slide Switch SPDT Surface Mount, Right Angle; Manufacturer_Name: ALPS Electric; Datasheet Link: https://tech.alpsalpine.com/e/products/detail/SSAJ120100/#ancFig2; Height: 0.9mm; Manufacturer_Part_Number: SSAJ120100; Mouser Part Number: 688-SSAJ120100; Mouser Price/Stock: https://www.mouser.co.uk/ProductDetail/Alps-Alpine/SSAJ120100?qs=35GPJvxY%252Bl5mRNwFoBrl2g%3D%3D
footprint SSAJ120100
pins: 1 NO, 2 NC, 3 COM, 4 MP1, 5 MP2

## ST25R200-BMET
designator U?
Powerful general-purpose NFC reader for consumer and industrial applications; Manufacturer_Name: STMicroelectronics; Copyright: Copyright (C) 2025 Ultra Librarian. All rights reserved.; Manufacturer_Part_Number: ST25R200-BMET; RefDes: RefDes; Type: Type
footprint UFQFPN24_STM
pins: 1 IRQ (out), 2 MISO (out), 3 VDD_IO (power), 4 GND_D (power), 5 VDD_D (power), 6 VDD_AM (power), 7 VDD (power), 8 VDD_DR (power), 9 RFO1 (out), 10 RFO2 (out), 11 GND_DR (power), 12 TAD2 (io), 13 TAD1 (out), 14 VDD_A (power), 15 AGD (io), 16 RFI1 (in), 17 RFI2 (in), 18 GND_A (power), 19 XTI (in), 20 XTO (out), 21 RESET (in), 22 BSS (in), 23 MOSI (in), 24 SCLK (in), 25 VSS (power)

## ST25R200-BMET_1
designator U?
RFID Reader IC 27.12MHz ISO 14443-A, ISO 14443-B, ISO 15693, MIFARE, NFC SPI 2.7V ~ 5.5V 24-UFQFN Exposed Pad; Manufacturer: STMicroelectronics; Supplier: Digi; 497-ST25R200-BMETDKR-ND; JLCPCB PART#: C32152552
footprint QFN50P400X400X60-25N-D
pins: 1 IRQ, 2 MISO, 3 VDD_IO, 4 GND_D, 5 VDD_D, 6 VDD_AM, 7 VDD, 8 VDD_DR, 9 RFO1, 10 RFO2, 11 GND_DR, 12 TAD2, 13 TAD1, 14 VDD_A, 15 AGD, 16 RFI1, 17 RFI2, 18 GND_A, 19 XTI, 20 XTO, 21 RESET, 22 BSS, 23 MOSI, 24 SCLK, 25 VSS

## STM32H7B0RBT6
designator IC?
Integrated Circuit; Manufacturer_Name: STMicroelectronics; Datasheet Link: https://www.mouser.com/datasheet/2/389/dm00674684-1799600.pdf; Height: 1.6mm; Manufacturer_Part_Number: STM32H7B0RBT6; Mouser Part Number: 511-STM32H7B0RBT6; Mouser Price/Stock: https://www.mouser.co.uk/ProductDetail/STMicroelectronics/STM32H7B0RBT6?qs=xZ%2FP%252Ba9zWqZ2tzX90GObZw%3D%3D; Arrow Part Number: STM32H7B0RBT6; Arrow Price/Stock: https://www.arrow.com/en/products/stm32h7b0rbt6/stmicroelectronics?region=nac
footprint QFP50P1200X1200X160-64N
pins: 1 VBAT, 2 PC13, 3 PC14-OSC32_IN, 4 PC15-OSC32_OUT, 5 PH0-OSC_IN, 6 PH1-OSC_OUT, 7 NRST, 8 PC0, 9 PC1, 10 PC2, 11 PC3, 12 VSSA, 13 VDDA, 14 PA0, 15 PA1, 16 PA2, 17 PA3, 18 VSS_1, 19 VDD_1, 20 PA4, 21 PA5, 22 PA6, 23 PA7, 24 PC4, 25 PC5, 26 PB0, 27 PB1, 28 PB2, 29 PB10, 30 VCAP_1, 31 VSS_2, 32 VDD_2, 33 PB12, 34 PB13, 35 PB14, 36 PB15, 37 PC6, 38 PC7, 39 PC9, 40 PA8, 41 PA9, 42 PA10, 43 PA11, 44 PA12, 45 PA13, 46 VCAP_2, 47 VSS_3, 48 VDD_3, 49 PA14, 50 PA15, 51 PC10, 52 PC11, 53 PC12, 54 PD2, 55 PB3, 56 PB4, 57 PB5, 58 PB6, 59 PB7, 60 BOOT0, 61 PB8, 62 PB9, 63 VSS_4, 64 VDD_4

## STM32H503CBT6
designator B?
ARM Microcontrollers - MCU Arm Cortex-M33 32-bit 250MHz, 128 Kbytes of Flash, 32 Kbytes of RAM, I3C; Manufacturer_Name: STMicroelectronics; Geometry.Height: 1.6mm; Manufacturer_Part_Number: STM32H503CBT6; Mouser Part Number: 511-STM32H503CBT6; Mouser Price/Stock: https://www.mouser.co.uk/ProductDetail/STMicroelectronics/STM32H503CBT6?qs=amGC7iS6iy99sz%2FXgeIPHg%3D%3D; Arrow Part Number: STM32H503CBT6; Arrow Price/Stock: https://www.arrow.com/en/products/stm32h503cbt6/stmicroelectronics?utm_currency=USD&region=nac; Datasheet Link: https://www.st.com/resource/en/datasheet/stm32h503eb.pdf; LCSC: C17700273
footprint QFP50P900X900X160-48N
pins: 1 VBAT, 2 PC13, 3 PC14-OSC32_IN, 4 PC15-OSC32_OUT, 5 PH0-OSC_IN, 6 PH1-OSC_OUT, 7 NRST, 8 VSSA/VREF-, 9 VDDA/VREF+, 10 PA0, 11 PA1, 12 PA2, 13 PA3, 14 PA4, 15 PA5, 16 PA6, 17 PA7, 18 PB0, 19 PB1, 20 PB2, 21 PB10, 22 VCAP_1, 23 VSS_1, 24 VDD_1, 25 PB12, 26 PB13, 27 PB14, 28 PB15, 29 PA8, 30 PA9, 31 PA10, 32 PA11, 33 PA12, 34 PA13, 35 VSS_2, 36 VDD_2, 37 PA14, 38 PA15, 39 PB3, 40 PB4, 41 PB5, 42 PB6, 43 PB7, 44 BOOT0, 45 PB8, 46 VCAP_2, 47 VSS_3, 48 VDD_3

## SW-PB
designator SW?
footprint CKN9084
pins: 1, 2

## Switch-Slide-RA-J-Lead-DPDT-8.5x3.5mm_C&K
designator SW?, comment Switch
SMD slide Switch (ON-ON); Part Number: Switch-Slide-RA-J-Lead-DPDT-8.5x3.5mm_C&K; Manufacturer: C&K; Manufacturer Part Number: JS202011JAQN; Part number IPS: 00000007811; Part number NEMS: 101500037; Note: N.A.; Pad Count: 6; Component Status: Active; Footprint Doc: Switch-Slide-RA-J-Lead-DPDT-8.5x3.5mm; LatestRevisionDate: 2017-02-01; Published: 2016-09-15; Value: Switch; Artikkelnr Noca: N.A.; ComponentLink1URL: N.A.; ComponentLink1Description: Datasheet; ComponentLink2URL: N.A.; ComponentLink2Description: Supplier link; HelpURL: http://www.ck-components.com/media/1422/js.pdf; Supplier 1: Digi-Key; Supplier Part Number 1: CKN10722CT-ND; Supplier 2: Mouser; Supplier Part Number 2: 611-JS202011JAQN; Author: rsk; Component Class: Switches; PartId: 101500037; Part number Norautron: N.A.
footprint JS102011JAQN
pins: 1 N.O-1, 2 COM-1, 3 N.C-1, 4 N.O-2, 5 COM-2, 6 N.C-2

## Switch-Slide-RA-J-Lead-DPDT-8.5x3.5mm_C&K_1
designator SW?, comment Switch
SMD slide Switch (ON-ON); Part Number: Switch-Slide-RA-J-Lead-DPDT-8.5x3.5mm_C&K; Manufacturer: C&K; Manufacturer Part Number: JS202011JAQN; Part number IPS: 00000007811; Part number NEMS: 101500037; Note: N.A.; Pad Count: 6; Component Status: Active; Footprint Doc: Switch-Slide-RA-J-Lead-DPDT-8.5x3.5mm; LatestRevisionDate: 2017-02-01; Published: 2016-09-15; Value: Switch; Artikkelnr Noca: N.A.; ComponentLink1URL: N.A.; ComponentLink1Description: Datasheet; ComponentLink2URL: N.A.; ComponentLink2Description: Supplier link; HelpURL: http://www.ck-components.com/media/1422/js.pdf; Supplier 1: Digi-Key; Supplier Part Number 1: CKN10722CT-ND; Supplier 2: Mouser; Supplier Part Number 2: 611-JS202011JAQN; Author: rsk; Component Class: Switches; PartId: 101500037; Part number Norautron: N.A.
footprint JS102011JAQN
pins: 1 N.O-1, 2 COM-1, 3 N.C-1, 4 N.O-2, 5 COM-2, 6 N.C-2

## SWR201-NRTN-S03-SA-WH
designator J?
Connector; Manufacturer_Name: Sullins; Datasheet Link: https://drawings-pdf.s3.amazonaws.com/11623.pdf; Height: 6.3mm; Manufacturer_Part_Number: SWR201-NRTN-S03-SA-WH
footprint SHDR3W50P0X200_1X3_790X460X630P
pins: 1, 2, 3

## TCA8418RTWR
designator U?
I2C Controlled Keypad Scan IC With Integrated ESD Protection 24-WQFN -40 to 85; MF: Texas Instruments; Purchase-URL: https://pricing.snapeda.com/search/part/TCA8418RTWR/?ref=eda; Value: *; SnapEDA_Link: https://www.snapeda.com/parts/TCA8418RTWR/Texas%20Instruments/view-part/229165/?ref=snap; Package: WQFN-24 Texas Instruments; MP: TCA8418RTWR; Digi-Key_Part_Number: 296-25223-1-ND; Check_prices: https://www.snapeda.com/parts/TCA8418RTWR/Texas%20Instruments/view-part/229165/?ref=eda
footprint QFN50P400X400X80-25N
pins: 1 ROW7 (io), 2 ROW6 (io), 3 ROW5 (io), 4 ROW4 (io), 5 ROW3 (io), 6 ROW2 (io), 7 ROW1 (io), 8 ROW0 (io), 9 COL0 (io), 10 COL1 (io), 11 COL2 (io), 12 COL3 (io), 13 COL4 (io), 14 COL5 (io), 15 COL6 (io), 16 COL7 (io), 17 COL8 (io), 18 COL9 (io), 19 GND (power), 20 ~{RESET} (in), 21 VCC (power), 22 SDA (io), 23 SCL (in), 24 ~{INT} (out), 25 EP

## TCA9535PWR
designator U?
16-bit 1.65- to 5.5-V I2C/SMBus I/O expander with interrupt & config registers; MF: Texas Instruments; MP: TCA9535PWR; SnapEDA_Link: https://www.snapeda.com/parts/TCA9535PWR/Texas+Instruments/view-part/?ref=snap; Package: TSSOP-24 Texas Instruments; Value: *; Check_prices: https://www.snapeda.com/parts/TCA9535PWR/Texas+Instruments/view-part/?ref=eda
footprint SOP65P640X120-24N
pins: 1 ~{INT} (out), 2 A1 (in), 3 A2 (in), 4 P00 (io), 5 P01 (io), 6 P02 (io), 7 P03 (io), 8 P04 (io), 9 P05 (io), 10 P06 (io), 11 P07 (io), 12 GND (power), 13 P10 (io), 14 P11 (io), 15 P12 (io), 16 P13 (io), 17 P14 (io), 18 P15 (io), 19 P16 (io), 20 P17 (io), 21 A0 (in), 22 SCL (in), 23 SDA (io), 24 VCC (power)

## TCK106AG
designator U?
1.0 A Load Switch IC with Slew Rate Control Driver in Ultra Small Package; Manufacturer: Toshiba; Manufacturer Part Number: TCK106AG,LF; Part number IPS: 00000004390; Part number Norautron: 26500627; Part number NEMS: 101900575; Note: N.A.; Pad Count: 4; Component Status: Active; Part Number: TCK106AG; ComponentLink1URL: https://toshiba.semicon-storage.com/info/docget.jsp?did=30131&prodName=TCK106AG; ComponentLink1Description: Datasheet; ComponentLink2URL: N.A.; ComponentLink2Description: Supplier link; HelpURL: N.A.; Footprint Doc: WLCSP-4; LatestRevisionDate: 2019-03-01; Published: 2019-02-17; Value: TCK106AG; Supplier 1: Digi-Key; Supplier Part Number 1: TCK106AGLFTR-ND; Supplier 2: Mouser; Supplier Part Number 2: 757-TCK106AGLF; Artikkelnr Noca: N.A.; Component Class: Misc_ICs; PartId: 101900575; Author: rsk
footprint BGA4C40P2X2_76X76X62
pins: A1 VOUT (power), A2 VIN (power), B1 GND (power), B2 CTRL (in)

## TCK106AG_1
designator U?, comment TCK106AG
1.0 A Load Switch IC with Slew Rate Control Driver in Ultra Small Package; Manufacturer: Toshiba; Manufacturer Part Number: TCK106AG,LF; Part number IPS: 00000004390; Part number Norautron: 26500627; Part number NEMS: 101900575; Note: N.A.; Pad Count: 4; Component Status: Active; Part Number: TCK106AG; ComponentLink1URL: https://toshiba.semicon-storage.com/info/docget.jsp?did=30131&prodName=TCK106AG; ComponentLink1Description: Datasheet; ComponentLink2URL: N.A.; ComponentLink2Description: Supplier link; HelpURL: N.A.; Footprint Doc: WLCSP-4; LatestRevisionDate: 2019-03-01; Published: 2019-02-17; Value: TCK106AG; Supplier 1: Digi-Key; Supplier Part Number 1: TCK106AGLFTR-ND; Supplier 2: Mouser; Supplier Part Number 2: 757-TCK106AGLF; Artikkelnr Noca: N.A.; Component Class: Misc_ICs; PartId: 101900575; Author: rsk
footprint BGA4C40P2X2_76X76X62
pins: A1 VOUT (power), A2 VIN (power), B1 GND (power), B2 CTRL (in)

## TCK108AG
designator U?
1.0 A Load Switch IC with Slew Rate Control Driver in Ultra Small Package; Manufacturer: Toshiba; Manufacturer Part Number: TCK108AG,LF; Part number NEMS: 101900814; Pad Count: 4; Note: N.A.; Component Status: Active; Part Number: TCK108AG; Component Class: Misc_ICs; ComponentLink1URL: https://toshiba.semicon-storage.com/info/docget.jsp?did=30131&prodName=TCK106AG; ComponentLink1Description: Datasheet; ComponentLink2URL: N.A.; ComponentLink2Description: Supplier link; HelpURL: https://toshiba.semicon-storage.com/ap-en/semiconductor/product/power-management-ics/load-switch-ics/detail.TCK108AG.html; Footprint Doc: WLCSP-4; LatestRevisionDate: 2024-02-27; Published: 2024-02-27; Value: TCK108AG; Supplier 1: Digi-Key; Supplier Part Number 1: TCK108AGLFCT-ND; Supplier 2: Mouser; Supplier Part Number 2: 757-TCK108AGLF; Artikkelnr Noca: N.A.; Part number IPS: N.A.; Author: getr; Part number Norautron: N.A.; PartId: 101900814
footprint BGA4C40P2X2_76X76X62
pins: A1 VOUT (power), A2 VIN (power), B1 GND (power), B2 ~{CTRL} (in)

## TCK108AG_1
designator U?, comment TCK108AG
1.0 A Load Switch IC with Slew Rate Control Driver in Ultra Small Package; Manufacturer: Toshiba; Manufacturer Part Number: TCK108AG,LF; Part number NEMS: 101900814; Pad Count: 4; Note: N.A.; Component Status: Active; Part Number: TCK108AG; Component Class: Misc_ICs; ComponentLink1URL: https://toshiba.semicon-storage.com/info/docget.jsp?did=30131&prodName=TCK106AG; ComponentLink1Description: Datasheet; ComponentLink2URL: N.A.; ComponentLink2Description: Supplier link; HelpURL: https://toshiba.semicon-storage.com/ap-en/semiconductor/product/power-management-ics/load-switch-ics/detail.TCK108AG.html; Footprint Doc: WLCSP-4; LatestRevisionDate: 2024-02-27; Published: 2024-02-27; Value: TCK108AG; Supplier 1: Digi-Key; Supplier Part Number 1: TCK108AGLFCT-ND; Supplier 2: Mouser; Supplier Part Number 2: 757-TCK108AGLF; Artikkelnr Noca: N.A.; Part number IPS: N.A.; Author: getr; Part number Norautron: N.A.; PartId: 101900814
footprint BGA4C40P2X2_76X76X62
pins: A1 VOUT (power), A2 VIN (power), B1 GND (power), B2 ~{CTRL} (in)

## TEST_POINT_SMD
designator TP?, comment Test Point  (value not drawn)
footprint TEST_POINT
pins: 1

## TEST_POINT_SMD_1
designator TP?, comment Test Point  (value not drawn)
footprint TEST_POINT
pins: 1

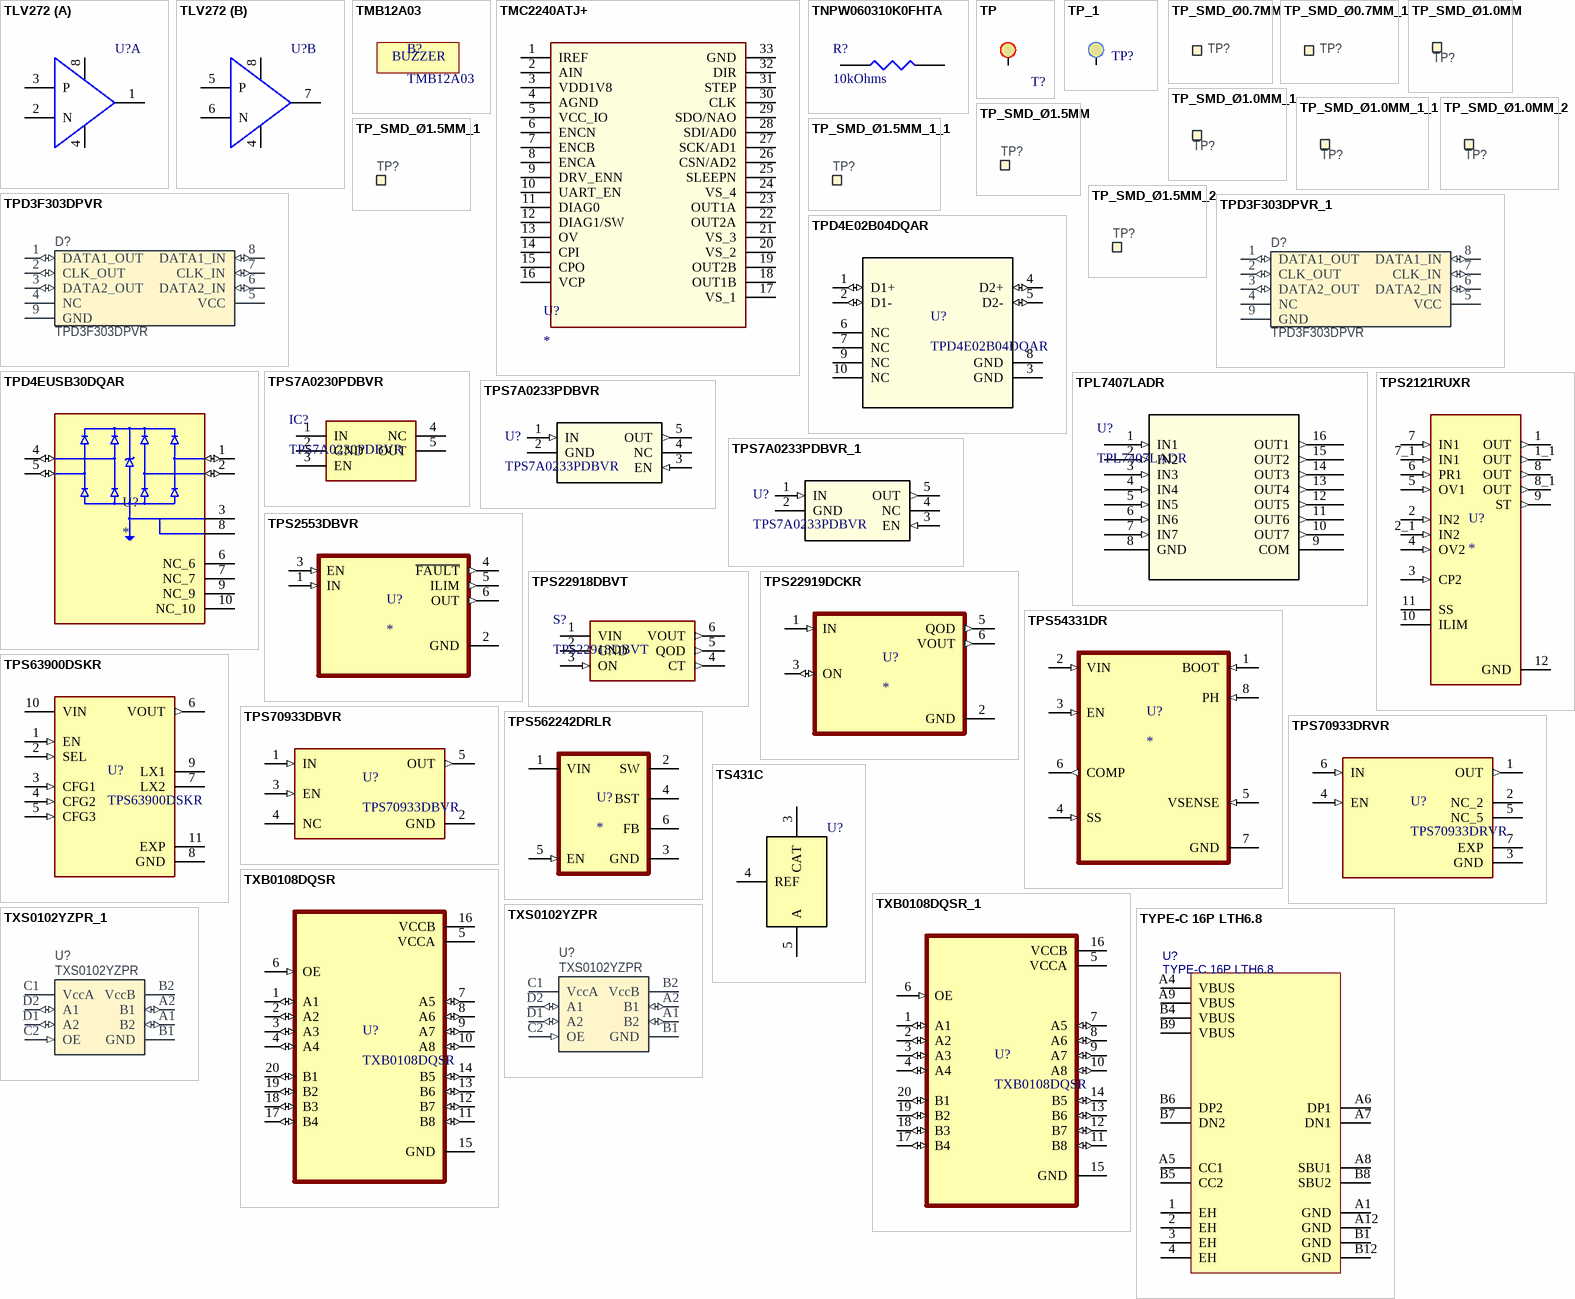
[diagram p14: symbols TLV272 to TYPE-C 16P LTH6.8]

## TLV272
designator U?
footprint SO-8
part A pins: 1 OUT, 2 N, 3 P, 4 GND, 8 VDD
part B pins: 4 GND, 5 P, 6 N, 7 OUT, 8 VDD

## TMB12A03
designator B?
LCSC: C96222
text: BUZZER

## TMC2240ATJ+
designator U?
Bipolar Motor Driver Power MOSFET SPI, Step/Direction, UART 32-TQFN (5x5); Manufacturer: Analog Devices Inc./Maxim Integrated; Supplier: Digi; 505-TMC2240ATJ+-ND
footprint QFN50P500X500X80-33N
pins: 1 IREF, 2 AIN, 3 VDD1V8, 4 AGND, 5 VCC_IO, 6 ENCN, 7 ENCB, 8 ENCA, 9 DRV_ENN, 10 UART_EN, 11 DIAG0, 12 DIAG1/SW, 13 OV, 14 CPI, 15 CPO, 16 VCP, 17 VS_1, 18 OUT1B, 19 OUT2B, 20 VS_2, 21 VS_3, 22 OUT2A, 23 OUT1A, 24 VS_4, 25 SLEEPN, 26 CSN/AD2, 27 SCK/AD1, 28 SDI/AD0, 29 SDO/NAO, 30 CLK, 31 STEP, 32 DIR, 33 GND

## TNPW060310K0FHTA
designator R?, comment 10kOhms
10 kOhms ±1% 0.1W, 1/10W Chip Resistor 0603 (1608 Metric) Automotive AEC-Q200 Thin Film; Manufacturer: Vishay Dale; Supplier: Digi; 541-3906-6-ND
footprint RESC0603X03L_C (Chip Resistor, 2-Leads, Body 0.6x0.3mm, IPC High Density)
pins: 1, 2

## TP
designator T?, comment SMD  (value not drawn)
DESIG: testing PAD; FAB: NA; VAL: NOT POPULATED; PCB Footprint: test0_8-smd; REF: NA
footprint TEST_POINT
pins: 1 TP

## TP_1
designator TP?, comment Test Point  (value not drawn)  (no BOM)
footprint TEST_POINT
pins: 1 TP

## TP_SMD_Ø0.7MM
designator TP?, comment Ø0.7mm,SMD  (value not drawn)  (no BOM)
0.7mm circular SMD testpad; Part Number: TP_SMD_Ø0.7MM; Manufacturer: Nordic Semiconductor; Manufacturer Part Number: N.A.; Part number NEMS: 100500474; Pad Count: 1; Component Status: Active; PartId: 100500474; Component Class: Connectors; ComponentLink1URL: N.A.; ComponentLink1Description: Datasheet; ComponentLink2URL: N.A.; ComponentLink2Description: Supplier link; HelpURL: N.A.; Footprint Doc: TP_SMD_Ø0.7mm; LatestRevisionDate: 2021-03-05; Published: 2017-12-14; Value: Ø0.7mm,SMD; Note: N.A.; Supplier 1: N.A.; Supplier Part Number 1: N.A.; Supplier 2: N.A.; Supplier Part Number 2: N.A.; Artikkelnr Noca: N.A.; Part number IPS: N.A.; Author: rsk; Part number Norautron: N.A.
footprint TP_SMD_D0.7mm
pins: 1

## TP_SMD_Ø0.7MM_1
designator TP?, comment Ø0.7mm,SMD  (value not drawn)  (no BOM)
0.7mm circular SMD testpad; Part Number: TP_SMD_Ø0.7MM; Manufacturer: Nordic Semiconductor; Manufacturer Part Number: N.A.; Part number NEMS: 100500474; Pad Count: 1; Component Status: Active; PartId: 100500474; Component Class: Connectors; ComponentLink1URL: N.A.; ComponentLink1Description: Datasheet; ComponentLink2URL: N.A.; ComponentLink2Description: Supplier link; HelpURL: N.A.; Footprint Doc: TP_SMD_Ø0.7mm; LatestRevisionDate: 2021-03-05; Published: 2017-12-14; Value: Ø0.7mm,SMD; Note: N.A.; Supplier 1: N.A.; Supplier Part Number 1: N.A.; Supplier 2: N.A.; Supplier Part Number 2: N.A.; Artikkelnr Noca: N.A.; Part number IPS: N.A.; Author: rsk; Part number Norautron: N.A.
footprint TP_SMD_D0.7mm
pins: 1

## TP_SMD_Ø1.0MM
designator TP?, comment Ø1.0mm,SMD  (value not drawn)  (no BOM)
1.0mm circular SMD testpad; Part Number: TP_SMD_Ø1.0MM; Manufacturer: Nordic Semiconductor; Manufacturer Part Number: N.A.; Part number NEMS: 100500475; Pad Count: 1; Component Status: Active; PartId: 100500475; Component Class: Connectors; ComponentLink1URL: N.A.; ComponentLink1Description: Datasheet; ComponentLink2URL: N.A.; ComponentLink2Description: Supplier link; HelpURL: N.A.; Footprint Doc: TP_SMD_Ø1.0mm; LatestRevisionDate: 2021-03-05; Published: 2013-06-11; Value: Ø1.0mm,SMD; Note: N.A.; Supplier 1: N.A.; Supplier Part Number 1: N.A.; Supplier 2: N.A.; Supplier Part Number 2: N.A.; Artikkelnr Noca: N.A.; Part number IPS: N.A.; Author: rsk; Part number Norautron: N.A.
footprint TP_SMD_D1.0mm
pins: 1

## TP_SMD_Ø1.0MM_1
designator TP?, comment Ø1.0mm,SMD  (value not drawn)  (no BOM)
1.0mm circular SMD testpad; Part Number: TP_SMD_Ø1.0MM; Manufacturer: Nordic Semiconductor; Manufacturer Part Number: N.A.; Part number NEMS: 100500475; Pad Count: 1; Component Status: Active; System: Connector; PartId: 100500475; Component Class: Connectors; ComponentLink1URL: N.A.; ComponentLink1Description: Datasheet; ComponentLink2URL: N.A.; ComponentLink2Description: Supplier link; HelpURL: N.A.; Footprint Doc: TP_SMD_Ø1.0mm; LatestRevisionDate: 2021-03-05; Published: 2013-06-11; Value: Ø1.0mm,SMD; Note: N.A.; Supplier 1: N.A.; Supplier Part Number 1: N.A.; Supplier 2: N.A.; Supplier Part Number 2: N.A.; Artikkelnr Noca: N.A.; Part number IPS: N.A.; Author: rsk; Part number Norautron: N.A.
footprint TP_SMD_D1.0mm
pins: 1